# EAGLE library part MR206 (library wheat)
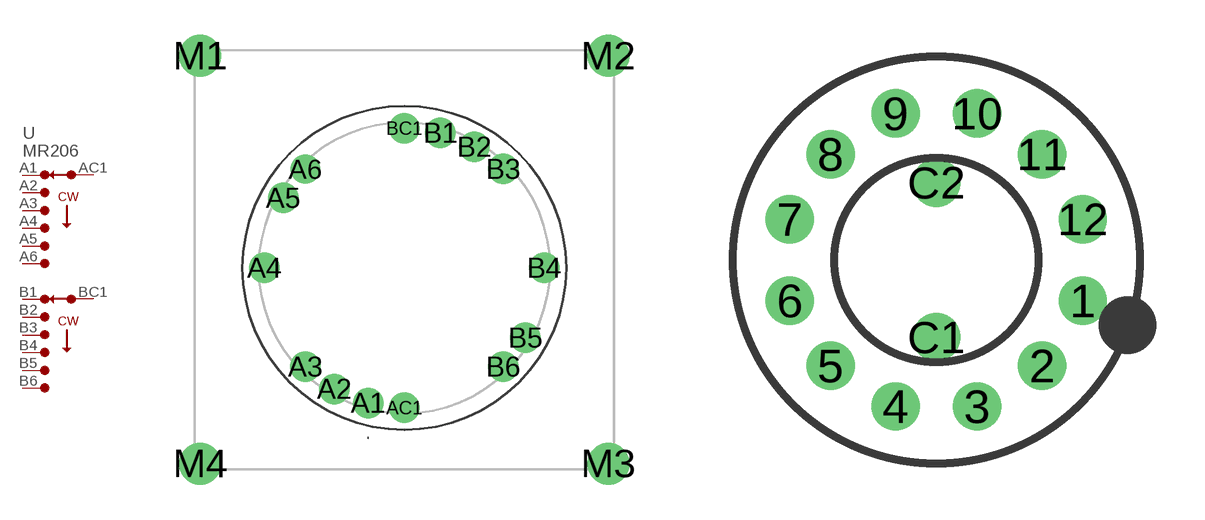
[diagram p272: symbol with the pads of MRK206; footprints MRK206, SW_ROTART_56_6P]

Designator prefix -

## MR206  [MRK206]
A1  A1  pas
A2  A2  pas
A3  A3  pas
A4  A4  pas
A5  A5  pas
A6  A6  pas
AC1  AC  pas
B1  B1  pas
B2  B2  pas
B3  B3  pas
B4  B4  pas
B5  B5  pas
B6  B6  pas
BC1  BC  pas

## MR20656  [SW_ROTART_56_6P]
1  A1  pas
2  A2  pas
3  A3  pas
4  A4  pas
5  A5  pas
6  A6  pas
7  B1  pas
8  B2  pas
9  B3  pas
10  B4  pas
11  B5  pas
12  B6  pas
C1  AC  pas
C2  BC  pas

## Footprint MRK206 (pad centres in mm)
drill 0.8 pad 1.3: A1 -1.553,-6.146; A2 -3,-5.546; A3 -4.243,-4.593; A4 -6,-0.35; A5 -5.196,2.65; AC1 0,-6.35; B1 1.553,5.446; B2 3,4.846; B3 4.243,3.893; B4 6,-0.35; B5 5.196,-3.35; B6 4.243,-4.593; BC1 0,5.65
drill 0.75 pad 1.2: A6 -4.243,3.893
drill 1.2: M1 -8.75,8.75; M2 8.75,8.75; M3 8.75,-8.75; M4 -8.75,-8.75

## Footprint SW_ROTART_56_6P (pad centres in mm)
drill 1: 1 4.572,-1.27; 2 3.302,-3.302; 3 1.27,-4.572; 4 -1.27,-4.572; 5 -3.302,-3.302; 6 -4.572,-1.27; 7 -4.572,1.27; 8 -3.302,3.302; 9 -1.27,4.572; 10 1.27,4.572; 11 3.302,3.302; 12 4.572,1.27; C1 0,-2.413; C2 0,2.413